# Altium footprint library SJ-3524-SMT-TR.PcbLib: 1 footprints
Each footprint in its own frame and in the unit in brackets; x right, y up, seen from the top. Pads: shape width x height; smd on the part's side, far side on the other; paste and mask are expansions set on the pad; w line width, h text height; cw(c..) or ccw(c..) is an arc to the next point about the centre after c.
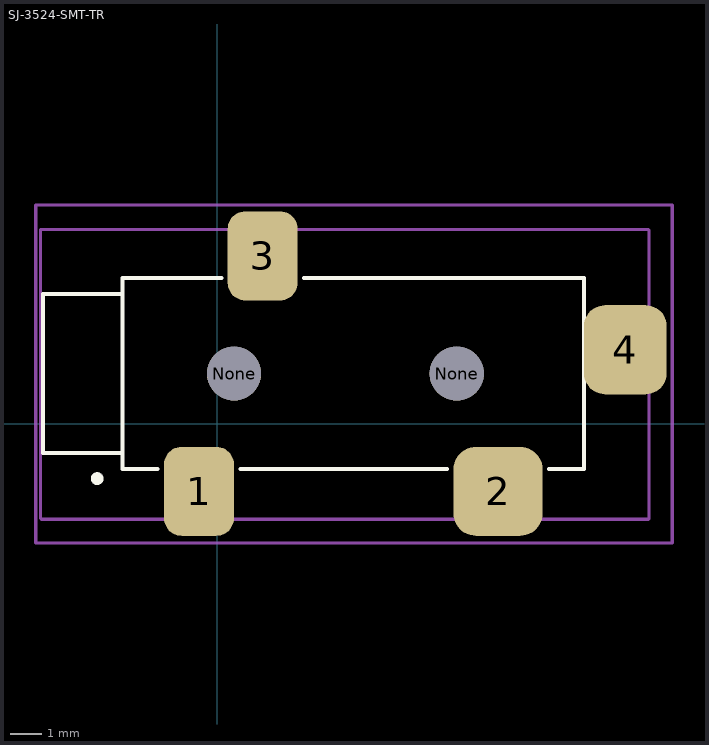
[diagram p0: the footprint, top view; thin cyan lines are the x and y axes]

## SJ-3524-SMT-TR [mm]
pads (6):
  rrect50% 2.2x2.8 smd: 1(-0.571,-2.125) 3(1.429,5.275)
  rrect50% 2.8x2.8 smd: 2(8.829,-2.125)
  rrect50% 2.6x2.8 smd: 4(12.829,2.325)
  round 1.7 hole 1.7 unplated: None(0.529,1.575) None(7.529,1.575)
Top Overlay:
  circle w0.2: c-3.771,-1.725 r0.1
  lines w0.127: -1.871,-1.425 -2.971,-1.425 -2.971,-0.925 ; 0.129,4.575 -2.971,4.575 -2.971,4.075 ; 0.729,-1.425 7.229,-1.425 ; 2.729,4.575 11.529,4.575 11.529,-1.425 10.429,-1.425 ; -2.971,-0.925 -2.971,4.075 ; -2.971,-0.925 -5.471,-0.925 -5.471,4.075 -2.971,4.075
Mechanical 2:
  lines w0.1: -5.55,-2.975 -5.525,-3 13.55,-3 13.575,-2.975 13.575,6.075 13.55,6.1 -5.55,6.1 -5.55,-2.975
Mechanical 4:
  lines w0.1: -5.7,-3.75 14.3,-3.75 14.3,6.875 -5.7,6.875 -5.7,-3.75
3D body "CUI_SJ-3524-SMT-TR.step": height 5, standoff -0.8, extent -5.475,-2.9 13.525,6.1